# EAGLE library part ADUM5404 (library systas0)
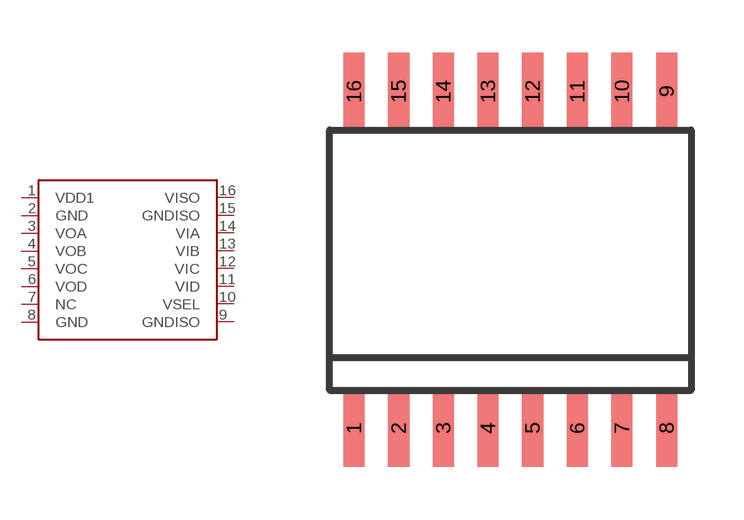
[diagram p29: symbol with the pads of SOIC16R; footprint SOIC16R]

Designator prefix -

## ADUM5404  [SOIC16R]
1  VDD1
2  GND
3  VOA
4  VOB
5  VOC
6  VOD
7  NC
8  GND
9  GNDISO
10  VSEL
11  VID
12  VIC
13  VIB
14  VIA
15  GNDISO
16  VISO

## Footprint SOIC16R (pad centres in mm)
smd 0.6 x 2.2: 1 -4.445,-4.775; 2 -3.175,-4.775; 3 -1.905,-4.775; 4 -0.635,-4.775; 5 0.635,-4.775; 6 1.905,-4.775; 7 3.175,-4.775; 8 4.445,-4.775; 9 4.445,4.8; 10 3.175,4.8; 11 1.905,4.8; 12 0.635,4.8; 13 -0.635,4.8; 14 -1.905,4.8; 15 -3.175,4.8; 16 -4.445,4.8